# EAGLE library part TXS0102 (library Eagle_CAD_parts)
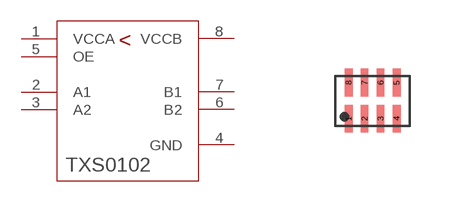
[diagram p57: symbol with the pads of 8-X2SON-1.8X1.2; footprint 8-X2SON-1.8X1.2]

Designator prefix U

## TXS0102_DQM (DIGIKEY_PART_NUMBER: 296-28435-1-ND; MANUFACTURER_PART_NUMBER: TXS0102DQMR)  [8-X2SON-1.8X1.2]
1  VCCA  pwr
2  A1
3  A2
4  GND  pwr
5  OE  out
6  B2
7  B1
8  VCCB  pwr

## Footprint 8-X2SON-1.8X1.2 (pad centres in mm)
smd 0.2 x 0.7: 1 -0.6,-0.45; 2 -0.2,-0.45; 3 0.2,-0.45; 4 0.6,-0.45; 5 0.6,0.45; 6 0.2,0.45; 7 -0.2,0.45; 8 -0.6,0.45